# EAGLE library part SN74LVC2G74DCUR (library MSA_lib)
POSITIVE-EDGE-TRIGGERED D-FLIP-FLOP
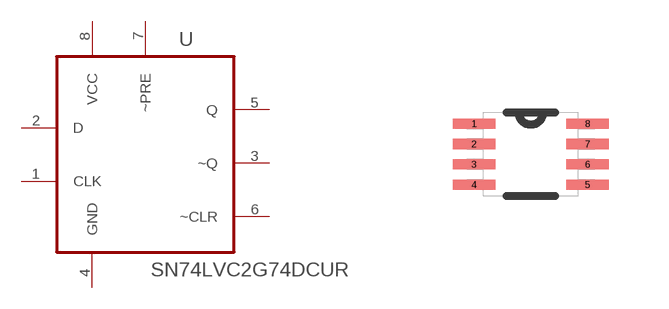
[diagram p5: symbol with the pads of SOP50P310X90-8N; footprint SOP50P310X90-8N]

Designator prefix U

## SN74LVC2G74DCUR (MPN: SN74LVC2G74DCUR; OC_FARNELL: 1287633; OC_NEWARK: 76C4223; PACKAGE: VSSOP-8; SUPPLIER: Texas Instruments)  [SOP50P310X90-8N]
1  CLK  in
2  D  in
3  ~Q  out
4  GND  pas
5  Q  out
6  ~CLR  in
7  ~PRE  in
8  VCC  pwr

## Footprint SOP50P310X90-8N (pad centres in mm)
smd 1.067 x 0.254: 1 -1.422,0.762; 2 -1.422,0.254; 3 -1.422,-0.254; 4 -1.422,-0.762; 5 1.422,-0.762; 6 1.422,-0.254; 7 1.422,0.254; 8 1.422,0.762